# Altium footprint library 基板.PcbLib: 15 footprints
Each footprint in its own frame and in the unit in brackets; x right, y up, seen from the top. Pads: shape width x height; smd on the part's side, far side on the other; paste and mask are expansions set on the pad; w line width, h text height; cw(c..) or ccw(c..) is an arc to the next point about the centre after c.
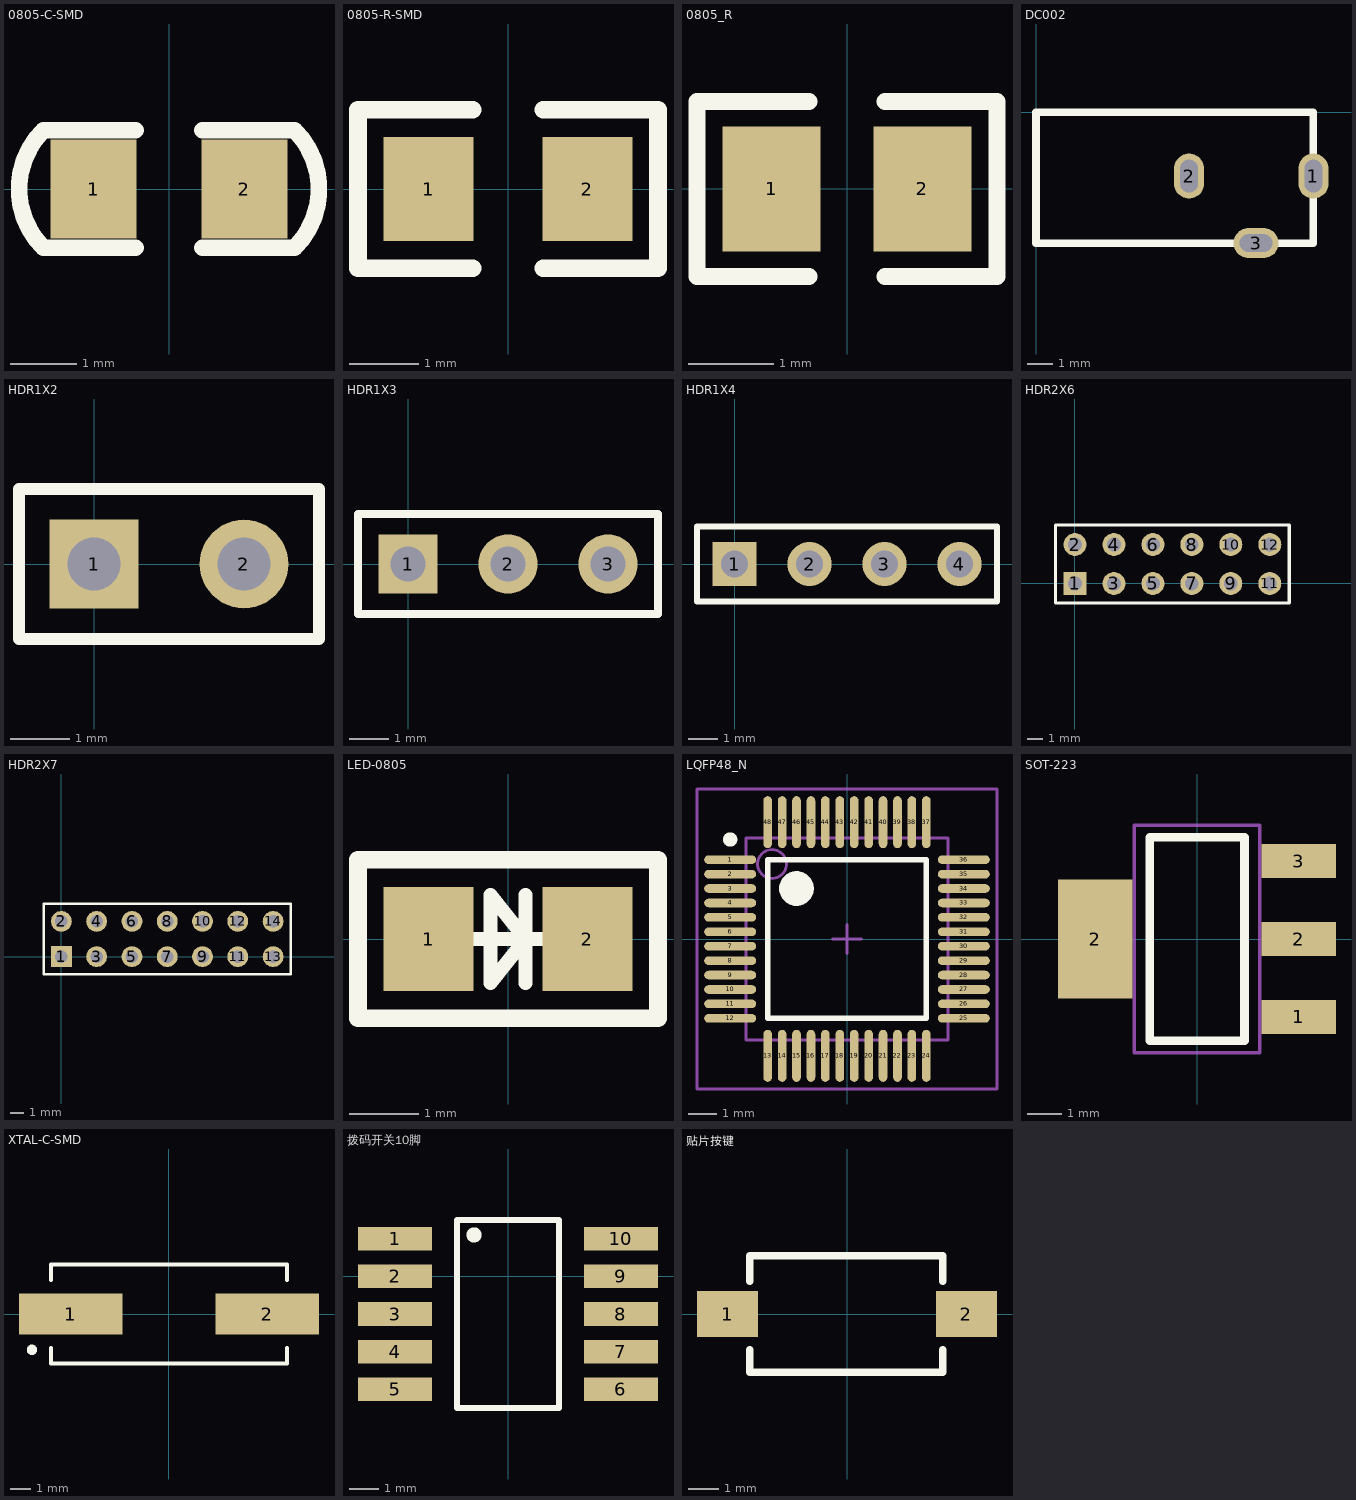
[diagram p0: the footprints below, top view; thin cyan lines are the x and y axes]

## 0805-C-SMD [mm]
height 1.27
pads (2):
  rect 1.3x1.5 smd: 1(-1.143,0) 2(1.143,0)
Top Overlay:
  lines w0.254: -0.508,-0.889 -1.905,-0.889 cw(c-1.016,0) -1.905,0.889 -0.508,0.889 ; 0.508,-0.889 1.905,-0.889 ccw(c1.016,0) 1.905,0.889 0.508,0.889
3D body "User Library-Chip Cap_MLCC_0805 (2012)_A.STEP": height 0.6, standoff 0, extent -1,-0.625 1,0.625

## 0805-R-SMD [mm]
pads (2):
  rect 1.3x1.5 smd: 1(-1.143,0) 2(1.143,0)
Top Overlay:
  lines w0.254: -0.508,-1.143 -2.159,-1.143 -2.159,0.635 -2.159,1.143 -0.508,1.143 ; 0.508,-1.143 2.159,-1.143 2.159,0.508 2.159,1.143 0.508,1.143
3D body "R0805.STEP": height 0.55, standoff 0, extent -1,-0.63 1,0.63

## 0805_R [mm]
pads (2):
  rect 1.16x1.47 smd: 1(-0.89,0) 2(0.89,0)
Top Overlay:
  lines w0.2: -0.45,-1.035 -1.77,-1.035 -1.77,1.035 -0.45,1.035 ; 0.45,-1.035 1.77,-1.035 1.77,1.035 0.45,1.035
3D body "User Library-R_0805.STEP": height 0.49, standoff -0.01, extent -0.997,-0.625 1.003,0.625

## DC002 [mm]
pads (3):
  oval 1.2x1.8 hole 0.7 slot 1.3 at 90 deg: 1(11.049,-2.54) 2(6.096,-2.54)
  oval 1.8x1.2 hole 0.7 slot 1.3 at 0 deg: 3(8.763,-5.207)
Top Overlay:
  lines w0.3: 0,-2.54 0,0 ; 0,0 11.049,0 11.049,-5.207 0,-5.207 0,0

## HDR1X2 [mm] "Connector; Header; 2 Position"
pads (2):
  rect 1.5x1.5 hole 0.9: 1(0,0)
  round 1.5 hole 0.9: 2(2.54,0)
Top Overlay:
  lines w0.2: -1.27,-1.27 -1.27,1.27 3.81,1.27 3.81,-1.27 -1.27,-1.27

## HDR1X3 [mm] "Connector; Header; 3 Position"
pads (3):
  rect 1.5x1.5 hole 0.9: 1(0,0)
  round 1.5 hole 0.9: 2(2.54,0) 3(5.08,0)
Top Overlay:
  lines w0.2: -1.27,-1.27 -1.27,1.27 6.35,1.27 6.35,-1.27 -1.27,-1.27

## HDR1X4 [mm] "Connector; Header; 4 Position"
pads (4):
  rect 1.5x1.5 hole 0.9: 1(0,0)
  round 1.5 hole 0.9: 2(2.54,0) 3(5.08,0) 4(7.62,0)
Top Overlay:
  lines w0.2: -1.27,-1.27 8.89,-1.27 8.89,1.27 -1.27,1.27 -1.27,-1.27

## HDR2X6 [mm] "Connector; Header; 6x2 Position"
pads (12):
  rect 1.5x1.5 hole 0.9: 1(0,0)
  round 1.5 hole 0.9: 2(0,2.54) 3(2.54,0) 4(2.54,2.54) 5(5.08,0) 6(5.08,2.54) 7(7.62,0) 8(7.62,2.54) 9(10.16,0) 10(10.16,2.54) 11(12.7,0) 12(12.7,2.54)
Top Overlay:
  lines w0.2: -1.27,-1.27 13.97,-1.27 13.97,3.81 -1.27,3.81 -1.27,-1.27

## HDR2X7 [mm] "Connector; Header; 7x2 Position"
pads (14):
  rect 1.5x1.5 hole 0.9: 1(0,0)
  round 1.5 hole 0.9: 2(0,2.54) 3(2.54,0) 4(2.54,2.54) 5(5.08,0) 6(5.08,2.54) 7(7.62,0) 8(7.62,2.54) 9(10.16,0) 10(10.16,2.54) 11(12.7,0) 12(12.7,2.54) 13(15.24,0) 14(15.24,2.54)
Top Overlay:
  lines w0.2: -1.27,-1.27 16.51,-1.27 16.51,3.81 -1.27,3.81 -1.27,-1.27

## LED-0805 [mm]
height 1.27
pads (2):
  rect 1.3x1.5 smd: 1(-1.143,0) 2(1.143,0)
Top Overlay:
  lines w0.203: -0.508,0 0.508,0 ; 0.254,-0.635 0.254,0.635 ; -0.254,-0.635 0.254,0 -0.254,0.635 -0.254,-0.635
  lines w0.254: -2.159,-1.143 2.159,-1.143 2.159,1.143 -2.159,1.143 -2.159,-1.143
3D body "User Library-LED SMD0805.STEP": height 0.85, standoff 0.01, extent -1.042,-0.453 1.021,0.453

## LQFP48_N [mm] "Thin QFP, 48-Leads, Body 7x7mm, Pitch 0.5mm, IPC Medium Density"
height 1.6
pads (48):
  oval 1.8x0.3 smd: 1(-4.05,2.75) 2(-4.05,2.25) 3(-4.05,1.75) 4(-4.05,1.25) 5(-4.05,0.75) 6(-4.05,0.25) 7(-4.05,-0.25) 8(-4.05,-0.75) 9(-4.05,-1.25) 10(-4.05,-1.75) 11(-4.05,-2.25) 12(-4.05,-2.75) 25(4.05,-2.75) 26(4.05,-2.25) 27(4.05,-1.75) 28(4.05,-1.25) 29(4.05,-0.75) 30(4.05,-0.25) 31(4.05,0.25) 32(4.05,0.75) 33(4.05,1.25) 34(4.05,1.75) 35(4.05,2.25) 36(4.05,2.75)
  oval 0.3x1.8 smd: 13(-2.75,-4.05) 14(-2.25,-4.05) 15(-1.75,-4.05) 16(-1.25,-4.05) 17(-0.75,-4.05) 18(-0.25,-4.05) 19(0.25,-4.05) 20(0.75,-4.05) 21(1.25,-4.05) 22(1.75,-4.05) 23(2.25,-4.05) 24(2.75,-4.05) 37(2.75,4.05) 38(2.25,4.05) 39(1.75,4.05) 40(1.25,4.05) 41(0.75,4.05) 42(0.25,4.05) 43(-0.25,4.05) 44(-0.75,4.05) 45(-1.25,4.05) 46(-1.75,4.05) 47(-2.25,4.05) 48(-2.75,4.05)
Top Overlay:
  circle w0.6: c-1.75,1.75 r0.3
  circle w0.25: c-4.05,3.45 r0.125
  lines w0.2: -2.75,-2.75 2.75,-2.75 2.75,2.75 -2.75,2.75 -2.75,-2.75
Mechanical 13:
  circle w0.1: c-2.6,2.6 r0.5
  lines w0.1: -3.5,-3.5 3.5,-3.5 3.5,3.5 -3.5,3.5 -3.5,-3.5
Mechanical 15:
  lines w0.1: -0.5,0 0.5,0 ; 0,-0.5 0,0.5 ; -5.2,-5.2 5.2,-5.2 5.2,5.2 -5.2,5.2 -5.2,-5.2
3D body: height 1.6, standoff 0, extent -3.5,-3.5 3.5,3.5

## SOT-223 [mm]
pads (4):
  rect 2.2x1 smd: 1(3,-2.3) 2(3,0) 3(3,2.3)
  rect 2.2x3.5 smd: 2(-3,0)
Top Overlay:
  lines w0.254: -1.4,-3 -1.4,3 1.4,3 1.4,-3 -1.4,-3
Mechanical 13:
  lines w0.1: -1.85,-3.35 1.85,-3.35 1.85,3.35 -1.85,3.35 -1.85,-3.35
3D body "TO-223.STEP": height 1.64, standoff -0.04, extent -3.49,-3.242 3.49,3.243

## XTAL-C-SMD [mm]
pads (2):
  rect 5x2 smd: 1(-4.75,0) 2(4.75,0)
Top Overlay:
  circle w0.25: c-6.625,-1.73 r0.125
  lines w0.2: -5.7,-1.65 -5.7,-2.4 5.7,-2.4 5.7,-1.65 ; -5.7,1.65 -5.7,2.4 5.7,2.4 5.7,1.65
3D body "User Library-hc49_cystal.STEP": height 4, standoff 0, extent -6.7,-2.462 6.7,2.438

## 拨码开关10脚 [mm]
pads (10):
  rect 2.5x0.8 smd: 1(-3.81,1.27) 2(-3.81,0) 3(-3.81,-1.27) 4(-3.81,-2.54) 5(-3.81,-3.81) 6(3.81,-3.81) 7(3.81,-2.54) 8(3.81,-1.27) 9(3.81,0) 10(3.81,1.27)
Top Overlay:
  circle w0.254: c-1.143,1.397 r0.127
  lines w0.2: -1.725,-4.445 -1.725,1.905 -0.318,1.905 0.318,1.905 1.725,1.905 1.725,-4.445 -1.725,-4.445

## 贴片按键 [mm]
pads (2):
  rect 2x1.5 smd: 1(-3.9,0) 2(3.9,0)
Top Overlay:
  lines w0.254: -3.175,-1.168 -3.175,-1.9 3.125,-1.9 3.125,-1.168 ; -3.175,1.067 -3.175,1.9 3.125,1.9 3.125,1.067
3D body "SMD按键.STEP": height 2.5, standoff 0, extent -3.959,-1.945 3.931,1.905